# Altium schematic symbol library 103327-2.SchLib: 1 symbol
Pins are listed as number, name and electrical type; pins without a type are passive.

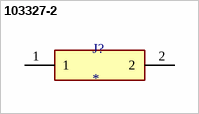
[diagram p0: symbol 103327-2]

## 103327-2
designator J?
02 MODII HDR SRST B/A .100CL; MP: 103327-2; MF: {'manufacturer': u'TE Connectivity'}; Package: None; Value: *; Price: None; Availability: Unavailable
footprint TE_103327-2
pins: 1, 2